# Altium integrated library CSD18504Q5A.IntLib: 1 symbol
Pins are listed as number, name and electrical type; pins without a type are passive.

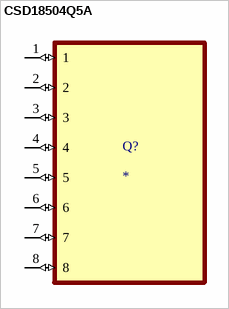
[diagram p0: symbol CSD18504Q5A]

## CSD18504Q5A
designator Q?
40V, N ch NexFET MOSFET, single SON5x6, 6.6mOhm 8-VSONP -55 to 150; MF: Texas Instruments; MP: CSD18504Q5A; Check_prices: https://www.snapeda.com/parts/CSD18504Q5A/Texas%20Instruments/view-part/474148/?ref=eda; SnapEDA_Link: https://www.snapeda.com/parts/CSD18504Q5A/Texas%20Instruments/view-part/474148/?ref=snap; Price: None; Value: *; Availability: Good; Package: VSONP-8 Texas Instruments; Purchase-URL: https://pricing.snapeda.com/search/part/CSD18504Q5A/?ref=eda
footprint MOSFET_CSD19531Q5A
pins: 1 (io), 2 (io), 3 (io), 4 (io), 5 (io), 6 (io), 7 (io), 8 (io)